# EAGLE library part LORA-E5 (library balto)
LoRa Wireless Module -Powered by STM32WE5
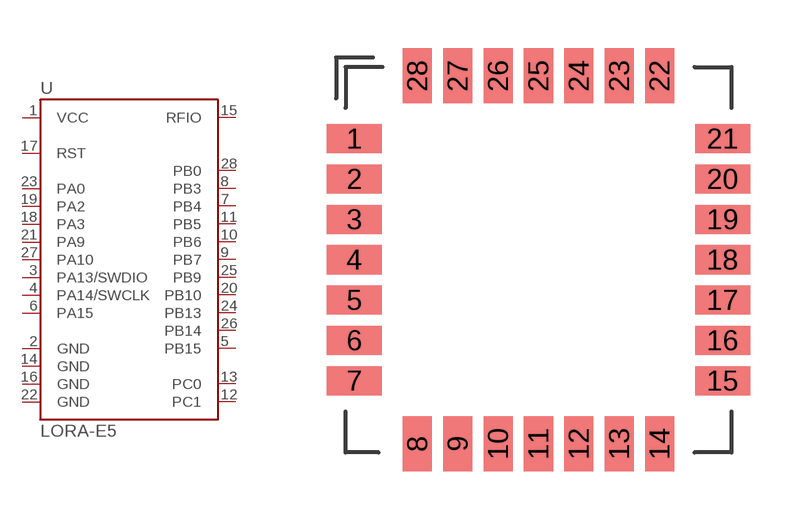
[diagram p79: symbol with the pads of LORA-E5; footprint LORA-E5]

Designator prefix U

## LORA-E5  [LORA-E5]
1  VCC
2  GND
3  PA13/SWDIO
4  PA14/SWCLK
5  PB15
6  PA15
7  PB4
8  PB3
9  PB7
10  PB6
11  PB5
12  PC1
13  PC0
14  GND
15  RFIO
16  GND
17  RST
18  PA3
19  PA2
20  PB10
21  PA9
22  GND
23  PA0
24  PB13
25  PB9
26  PB14
27  PA10
28  PB0

## Footprint LORA-E5 (pad centres in mm)
smd 1.7 x 0.9: 1 -5.7,3.75; 2 -5.7,2.5; 3 -5.7,1.25; 4 -5.7,0; 5 -5.7,-1.25; 6 -5.7,-2.5; 7 -5.7,-3.75; 15 5.7,-3.75; 16 5.7,-2.5; 17 5.7,-1.25; 18 5.7,0; 19 5.7,1.25; 20 5.7,2.5; 21 5.7,3.75
smd 0.9 x 1.7: 8 -3.75,-5.7; 9 -2.5,-5.7; 10 -1.25,-5.7; 11 0,-5.7; 12 1.25,-5.7; 13 2.5,-5.7; 14 3.75,-5.7; 22 3.75,5.7; 23 2.5,5.7; 24 1.25,5.7; 25 0,5.7; 26 -1.25,5.7; 27 -2.5,5.7; 28 -3.75,5.7